# EAGLE library part R-BUS-SIL-9 (library Skoba)
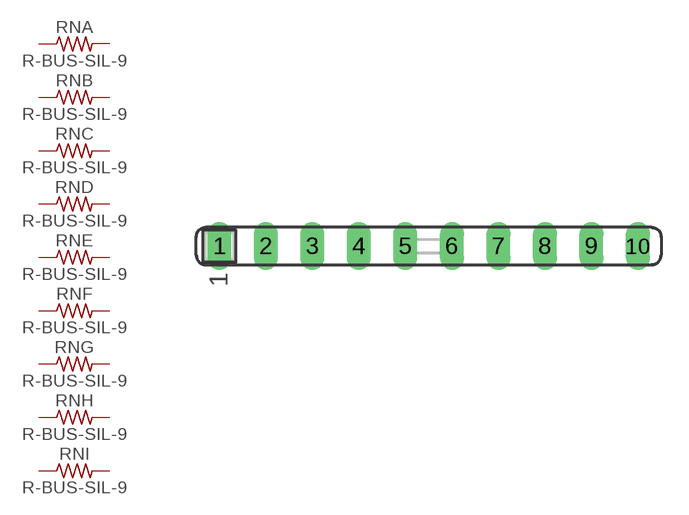
[diagram p53: symbol with the pads of SIL10; footprint SIL10]

Designator prefix RN; gates A=R-US B=R-US-1 C=R-US-1 D=R-US-1 E=R-US-1 F=R-US-1 G=R-US-1 H=R-US-1 I=R-US-1

## R-BUS-SIL-9  [SIL10]
1  A:2  pas
2  A:1  pas
3  B:1  pas
4  C:1  pas
5  D:1  pas
6  E:1  pas
7  F:1  pas
8  G:1  pas
9  H:1  pas
10  I:1  pas

## Footprint SIL10 (pad centres in mm)
Single In Line
drill 0.813 long: 1 -11.43,0; 2 -8.89,0; 3 -6.35,0; 4 -3.81,0; 5 -1.27,0; 6 1.27,0; 7 3.81,0; 8 6.35,0; 9 8.89,0; 10 11.43,0